# EAGLE library part TXB0101 (library Level-Shifters)
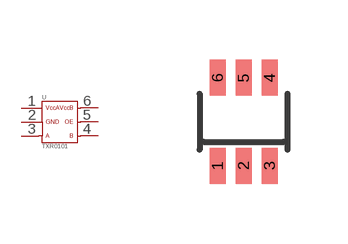
[diagram p0: symbol with the pads of TSSOP-6; footprint TSSOP-6]

Designator prefix U

## TXB0101-DCK  [TSSOP-6]
1  1  pas
2  2  pas
3  3  pas
4  4  pas
5  5  pas
6  6  pas

## Footprint TSSOP-6 (pad centres in mm)
smd 0.4 x 0.9: 1 -0.65,-1.1; 2 0,-1.1; 3 0.65,-1.1; 4 0.65,1.1; 5 0,1.1; 6 -0.65,1.1